# Altium footprint library WR-TBL_Rising Cage Clamp_10.00mm.PcbLib: 54 footprints (part 1 of 4)
Each footprint in its own frame and in the unit in brackets; x right, y up, seen from the top. Pads: shape width x height; smd on the part's side, far side on the other; paste and mask are expansions set on the pad; w line width, h text height; cw(c..) or ccw(c..) is an arc to the next point about the centre after c.
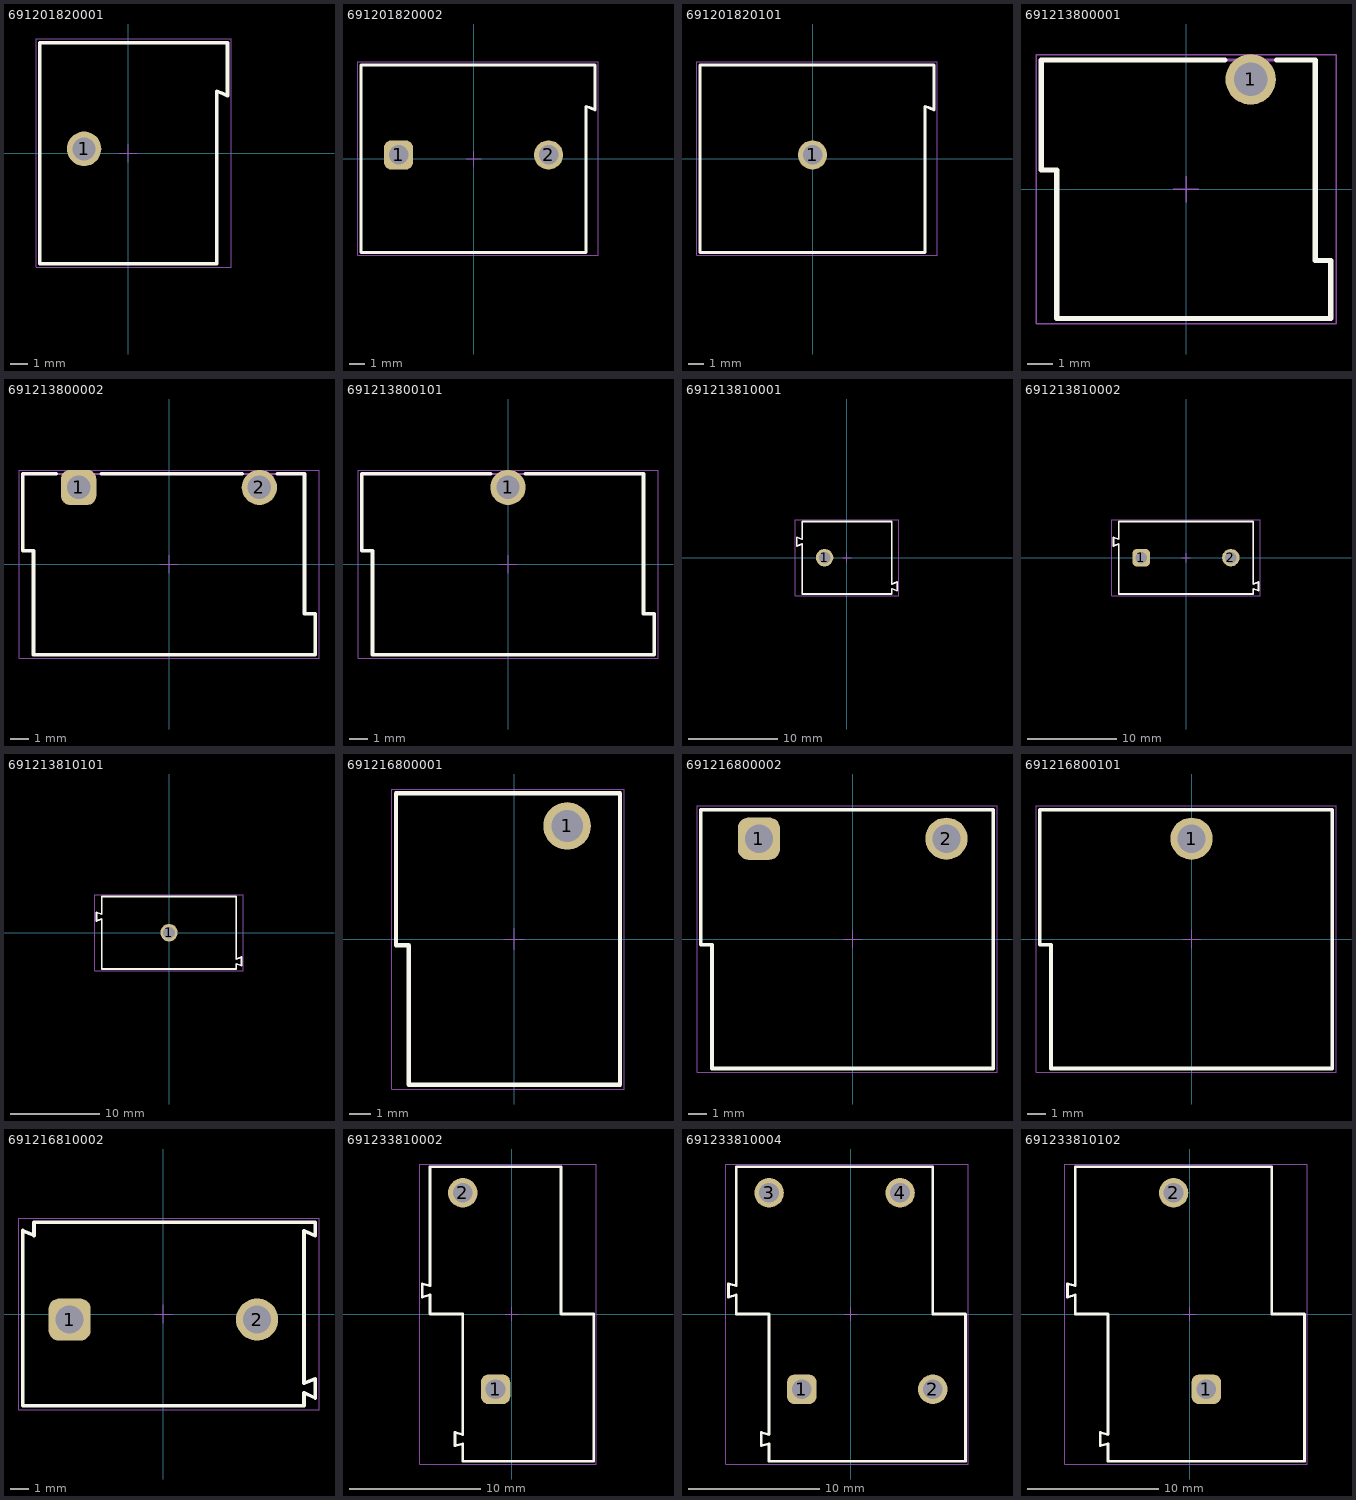
[diagram p0: the footprints below, top view; thin cyan lines are the x and y axes]

## 691201820001 [mm] "45¡ã Cable Entry with Rising Cage Clamp, pitch 10mm, 01p"
height 12
pads (1):
  round 1.95 hole 1.3: 1(-2.5,0.25)
Top Overlay:
  lines w0.2: 4.998,-6.248 4.998,3.494 cw(c2.595,-3.291) 5.6,3.25 5.6,6.25 -5,6.25 -5,-6.25 5,-6.25
Top Designator:
  text ".Designator" at -7.498,-0.5 h1.5
Top Component Outline:
  lines w0.1: 4.998,-6.248 4.998,3.494 cw(c2.595,-3.291) 5.6,3.25 5.6,6.25 -5,6.25 -5,-6.25 5,-6.25
Top 3D Body:
  lines w0.1: 4.998,-6.248 4.998,3.494 cw(c2.595,-3.291) 5.6,3.25 5.6,6.25 -5,6.25 -5,-6.25 5,-6.25
Top Courtyard:
  lines w0.05: -5.2,-6.45 5.8,-6.45 5.8,6.45 -5.2,6.45 -5.2,-6.45
Top Component Center:
  lines w0.05: -0.5,0 0.5,0 ; 0,-0.5 0,0.5
3D body "691201820001.stp": height 12.1, standoff -4.4, extent -5,-6.25 5.6,6.25

## 691201820002 [mm] "45¡ã Cable Entry with Rising Cage Clamp, pitch 10mm, 02p"
height 12
pads (2):
  rrect50% 1.95x1.95 hole 1.3: 1(-5,0.25)
  round 1.95 hole 1.3: 2(5,0.25)
Top Overlay:
  lines w0.2: 7.498,3.494 cw(c5.095,-3.291) 8.1,3.25 8.1,6.25 -7.5,6.25 -7.5,-6.25 7.5,-6.25 7.5,3.494
Top Designator:
  text ".Designator" at -7.498,-0.5 h1.5
Top Component Outline:
  lines w0.1: 7.498,3.494 cw(c5.095,-3.291) 8.1,3.25 8.1,6.25 -7.5,6.25 -7.5,-6.25 7.5,-6.25 7.5,3.494
Top 3D Body:
  lines w0.1: 7.498,3.494 cw(c5.095,-3.291) 8.1,3.25 8.1,6.25 -7.5,6.25 -7.5,-6.25 7.5,-6.25 7.5,3.494
Top Courtyard:
  lines w0.05: -7.7,-6.45 -7.7,6.45 8.3,6.45 8.3,-6.45 -7.7,-6.45
Top Component Center:
  lines w0.05: -0.5,0 0.5,0 ; 0,-0.5 0,0.5
3D body "691201820002.stp": height 12.1, standoff -4.4, extent -7.5,-6.25 8.1,6.25

## 691201820101 [mm] "45¡ã Cable Entry with Rising Cage Clamp, pitch 10mm, 01p"
height 12
pads (1):
  round 1.95 hole 1.3: 1(0,0.25)
Top Overlay:
  lines w0.2: 7.498,3.494 cw(c5.095,-3.291) 8.1,3.25 8.1,6.25 -7.5,6.25 -7.5,-6.25 7.5,-6.25 7.5,3.494
Top Designator:
  text ".Designator" at -7.498,-0.5 h1.5
Top Component Outline:
  lines w0.1: 7.498,3.494 cw(c5.095,-3.291) 8.1,3.25 8.1,6.25 -7.5,6.25 -7.5,-6.25 7.5,-6.25 7.5,3.494
Top 3D Body:
  lines w0.1: 7.498,3.494 cw(c5.095,-3.291) 8.1,3.25 8.1,6.25 -7.5,6.25 -7.5,-6.25 7.5,-6.25 7.5,3.494
Top Courtyard:
  lines w0.05: -7.7,-6.45 8.3,-6.45 8.3,6.45 -7.7,6.45 -7.7,-6.45
Top Component Center:
  lines w0.05: -0.5,0 0.5,0 ; 0,-0.5 0,0.5
3D body "691201820101.stp": height 12.1, standoff -4.4, extent -7.5,-6.25 8.1,6.25

## 691213800001 [mm] "Vertical Cable Entry with Rising Cage Clamp, pitch 10mm, 01p"
height 8.1
pads (1):
  round 1.95 hole 1.3: 1(2.5,4.25)
Top Overlay:
  lines w0.2: 1.5,5 -5.6,5 -5.6,0.75 -5,0.75 -5,-5 5.6,-5 5.6,-2.75 5,-2.75 5,5 3.5,5
Top Designator:
  text ".Designator" at -7.498,-0.5 h1.5
Top Component Outline:
  lines w0.1: -5.6,0.75 -5.6,5 5,5 5,-2.75 5.6,-2.75 5.6,-5 -5,-5 -5,0.75 -5.6,0.75
Top 3D Body:
  lines w0.1: -5.6,0.75 -5,0.75 -5,-5 5.6,-5 5.6,-2.75 5,-2.75 5,5 -5.6,5 -5.6,0.75
Top Courtyard:
  lines w0.05: -5.8,-5.2 5.8,-5.2 5.8,5.2 -5.8,5.2 -5.8,-5.2
Top Component Center:
  lines w0.05: -0.5,0 0.5,0 ; 0,-0.5 0,0.5
3D body "691213800001.stp": height 8.2, standoff -3.4, extent -5.6,-5 5.6,5

## 691213800002 [mm] "Vertical Cable Entry with Rising Cage Clamp, pitch 10mm, 02p"
height 8.1
pads (2):
  rrect50% 1.95x1.95 hole 1.3: 1(-5,4.25)
  round 1.95 hole 1.3: 2(5,4.25)
Top Overlay:
  lines w0.2: -6.25,5 -8.1,5 -8.1,0.75 -7.5,0.75 -7.5,-5 8.1,-5 8.1,-2.75 7.5,-2.75 7.5,5 6,5 ; -3.75,5 4.05,5
Top Designator:
  text ".Designator" at -7.498,-0.5 h1.5
Top Component Outline:
  lines w0.1: -8.1,0.75 -8.1,5 7.5,5 7.5,-2.75 8.1,-2.75 8.1,-5 -7.5,-5 -7.5,0.75 -8.1,0.75
Top 3D Body:
  lines w0.1: -8.1,0.75 -7.5,0.75 -7.5,-5 8.1,-5 8.1,-2.75 7.5,-2.75 7.5,5 -8.1,5 -8.1,0.75
Top Courtyard:
  lines w0.05: -8.3,-5.2 -8.3,5.2 8.3,5.2 8.3,-5.2 -8.3,-5.2
Top Component Center:
  lines w0.05: -0.5,0 0.5,0 ; 0,-0.5 0,0.5
3D body "691213800002.stp": height 8.2, standoff -3.4, extent -8.1,-5 8.1,5

## 691213800101 [mm] "Vertical Cable Entry with Rising Cage Clamp, pitch 10mm, 01p"
height 8.1
pads (1):
  round 1.95 hole 1.3: 1(0,4.25)
Top Overlay:
  lines w0.2: -0.95,5 -8.1,5 -8.1,0.75 -7.5,0.75 -7.5,-5 8.1,-5 8.1,-2.75 7.5,-2.75 7.5,5 0.95,5
Top Designator:
  text ".Designator" at -7.498,-0.5 h1.5
Top Component Outline:
  lines w0.1: -8.1,0.75 -8.1,5 7.5,5 7.5,-2.75 8.1,-2.75 8.1,-5 -7.5,-5 -7.5,0.75 -8.1,0.75
Top 3D Body:
  lines w0.1: -8.1,0.75 -7.5,0.75 -7.5,-5 8.1,-5 8.1,-2.75 7.5,-2.75 7.5,5 -8.1,5 -8.1,0.75
Top Courtyard:
  lines w0.05: -8.3,-5.2 -8.3,5.2 8.3,5.2 8.3,-5.2 -8.3,-5.2
Top Component Center:
  lines w0.05: -0.5,0 0.5,0 ; 0,-0.5 0,0.5
3D body "691213800101.stp": height 8.2, standoff -3.4, extent -8.1,-5 8.1,5

## 691213810001 [mm] "Horizontal Cable Entry with Rising Cage Clamp, pitch 10mm, 01p"
height 10
pads (1):
  round 1.95 hole 1.3: 1(-2.5,0)
Top Overlay:
  lines w0.2: -5.602,1.294 -5.602,2.294 ccw(c-2.597,8.835) -5,2.05 -5,4.05 5,4.05 ; -5.601,1.291 cw(c-2.502,-5.206) -5.002,1.544 -5.002,-4.048 ; -5,-4.05 5,-4.05 5,-3.45 cw(c2.597,-10.235) 5.602,-3.694 5.602,-2.694 ; 5.002,4.048 5.002,-2.944 ccw(c2.502,3.806) 5.601,-2.691
Top Designator:
  text ".Designator" at -7.498,-0.5 h1.5
Top Component Outline:
  lines w0.1: -5.602,1.294 -5.602,2.294 ccw(c-2.597,8.835) -5,2.05 -5,4.05 5,4.05 ; -5.601,1.291 cw(c-2.502,-5.206) -5.002,1.544 -5.002,-4.048 ; -5,-4.05 5,-4.05 5,-3.45 cw(c2.597,-10.235) 5.602,-3.694 5.602,-2.694 ; 5.002,4.048 5.002,-2.944 ccw(c2.502,3.806) 5.601,-2.691
Top 3D Body:
  lines w0.1: -5.602,1.294 -5.602,2.294 ccw(c-2.597,8.835) -5,2.05 -5,4.05 5,4.05 ; -5.601,1.291 cw(c-2.502,-5.206) -5.002,1.544 -5.002,-4.048 ; -5,-4.05 5,-4.05 5,-3.45 cw(c2.597,-10.235) 5.602,-3.694 5.602,-2.694 ; 5.002,4.048 5.002,-2.944 ccw(c2.502,3.806) 5.601,-2.691
Top Courtyard:
  lines w0.05: -5.8,-4.25 5.8,-4.25 5.8,4.25 -5.8,4.25 -5.8,-4.25
Top Component Center:
  lines w0.05: -0.5,0 0.5,0 ; 0,-0.5 0,0.5
3D body "691213810001.stp": height 10.14, standoff -3.36, extent -5.6,-4.05 5.6,4.05

## 691213810002 [mm] "Horizontal Cable Entry with Rising Cage Clamp, pitch 10mm, 02p"
height 10
pads (2):
  rrect50% 1.95x1.95 hole 1.3: 1(-5,0)
  round 1.95 hole 1.3: 2(5,0)
Top Overlay:
  lines w0.2: -8.102,1.294 -8.102,2.294 ccw(c-5.097,8.835) -7.5,2.05 -7.5,4.05 7.5,4.05 7.5,-2.944 ccw(c5,3.806) 8.099,-2.691 ; -8.101,1.291 cw(c-5.002,-5.206) -7.502,1.544 ; -7.5,1.544 -7.5,-4.05 7.5,-4.05 7.5,-3.45 ; 7.498,-3.45 cw(c5.095,-10.235) 8.1,-3.694 8.1,-2.694
Top Designator:
  text ".Designator" at -7.498,-0.5 h1.5
Top Component Outline:
  lines w0.1: -8.102,1.294 -8.102,2.294 ccw(c-5.097,8.835) -7.5,2.05 -7.5,4.05 7.5,4.05 7.5,-2.944 ccw(c5,3.806) 8.099,-2.691 ; -8.101,1.291 cw(c-5.002,-5.206) -7.502,1.544 ; -7.5,1.544 -7.5,-4.05 7.5,-4.05 7.5,-3.45 ; 7.498,-3.45 cw(c5.095,-10.235) 8.1,-3.694 8.1,-2.694
Top 3D Body:
  lines w0.1: -8.102,1.294 -8.102,2.294 ccw(c-5.097,8.835) -7.5,2.05 -7.5,4.05 7.5,4.05 7.5,-2.944 ccw(c5,3.806) 8.099,-2.691 ; -8.101,1.291 cw(c-5.002,-5.206) -7.502,1.544 ; -7.5,1.544 -7.5,-4.05 7.5,-4.05 7.5,-3.45 ; 7.498,-3.45 cw(c5.095,-10.235) 8.1,-3.694 8.1,-2.694
Top Courtyard:
  lines w0.05: -8.3,-4.25 -8.3,4.25 8.3,4.25 8.3,-4.25 -8.3,-4.25
Top Component Center:
  lines w0.05: -0.5,0 0.5,0 ; 0,-0.5 0,0.5
3D body "691213810002.stp": height 10.1, standoff -3.4, extent -8.1,-4.05 8.1,4.05

## 691213810101 [mm] "Horizontal Cable Entry with Rising Cage Clamp, pitch 10mm, 01p"
height 10
pads (1):
  round 1.95 hole 1.3: 1(0,0)
Top Overlay:
  lines w0.2: -8.102,1.294 -8.102,2.294 ccw(c-5.097,8.835) -7.5,2.05 -7.5,4.05 7.5,4.05 7.5,-2.944 ccw(c5,3.806) 8.099,-2.691 ; -8.101,1.291 cw(c-5.002,-5.206) -7.502,1.544 ; -7.5,1.544 -7.5,-4.05 7.5,-4.05 7.5,-3.45 ; 7.498,-3.45 cw(c5.095,-10.235) 8.1,-3.694 8.1,-2.694
Top Designator:
  text ".Designator" at -7.498,-0.5 h1.5
Top Component Outline:
  lines w0.1: -8.102,1.294 -8.102,2.294 ccw(c-5.097,8.835) -7.5,2.05 -7.5,4.05 7.5,4.05 7.5,-2.944 ccw(c5,3.806) 8.099,-2.691 ; -8.101,1.291 cw(c-5.002,-5.206) -7.502,1.544 ; -7.5,1.544 -7.5,-4.05 7.5,-4.05 7.5,-3.45 ; 7.498,-3.45 cw(c5.095,-10.235) 8.1,-3.694 8.1,-2.694
Top 3D Body:
  lines w0.1: -8.102,1.294 -8.102,2.294 ccw(c-5.097,8.835) -7.5,2.05 -7.5,4.05 7.5,4.05 7.5,-2.944 ccw(c5,3.806) 8.099,-2.691 ; -8.101,1.291 cw(c-5.002,-5.206) -7.502,1.544 ; -7.5,1.544 -7.5,-4.05 7.5,-4.05 7.5,-3.45 ; 7.498,-3.45 cw(c5.095,-10.235) 8.1,-3.694 8.1,-2.694
Top Courtyard:
  lines w0.05: -8.3,-4.25 8.3,-4.25 8.3,4.25 -8.3,4.25 -8.3,-4.25
Top Component Center:
  lines w0.05: -0.5,0 0.5,0 ; 0,-0.5 0,0.5
3D body "691213810101.stp": height 10.14, standoff -3.36, extent -8.1,-4.05 8.1,4.05

## 691216800001 [mm] "Vertical Cable Entry with Rising Cage Clamp, pitch 10mm, 01p"
height 9.8
pads (1):
  round 2.25 hole 1.5: 1(2.5,5.35)
Top Overlay:
  lines w0.2: -5.6,-0.3 -5,-0.3 -5,-6.9 5,-6.9 5,6.9 -5.6,6.9 -5.6,-0.3
Top Designator:
  text ".Designator" at -7.498,-0.5 h1.5
Top Component Outline:
  lines w0.1: -5.6,-0.3 -5.6,6.9 5,6.9 5,-6.9 -5,-6.9 -5,-0.3 -5.6,-0.3
Top 3D Body:
  lines w0.1: -5.6,-0.3 -5,-0.3 -5,-6.9 5,-6.9 5,6.9 -5.6,6.9 -5.6,-0.3
Top Courtyard:
  lines w0.05: -5.8,-7.1 -5.8,7.1 5.2,7.1 5.2,-7.1 -5.8,-7.1
Top Component Center:
  lines w0.05: -0.5,0 0.5,0 ; 0,-0.5 0,0.5
3D body "691216800001.stp": height 9.9, standoff -3.4, extent -5.6,-6.9 5,6.9

## 691216800002 [mm] "Vertical Cable Entry with Rising Cage Clamp, pitch 10mm, 02p"
height 9.8
pads (2):
  rrect50% 2.25x2.25 hole 1.5: 1(-5,5.35)
  round 2.25 hole 1.5: 2(5,5.35)
Top Overlay:
  lines w0.2: -8.1,-0.3 -8.1,6.9 7.5,6.9 7.5,-6.9 -7.5,-6.9 -7.5,-0.3 -8.1,-0.3
Top Designator:
  text ".Designator" at -7.498,-0.5 h1.5
Top Component Outline:
  lines w0.1: -8.1,-0.3 -7.5,-0.3 -7.5,-6.9 7.5,-6.9 7.5,6.9 -8.1,6.9 -8.1,-0.3
Top 3D Body:
  lines w0.1: -8.1,-0.3 -8.1,6.9 7.5,6.9 7.5,-6.9 -7.5,-6.9 -7.5,-0.3 -8.1,-0.3
Top Courtyard:
  lines w0.05: -8.3,-7.1 7.7,-7.1 7.7,7.1 -8.3,7.1 -8.3,-7.1
Top Component Center:
  lines w0.05: -0.5,0 0.5,0 ; 0,-0.5 0,0.5
3D body "691216800002.stp": height 9.9, standoff -3.4, extent -8.1,-6.9 7.5,6.9

## 691216800101 [mm] "Vertical Cable Entry with Rising Cage Clamp, pitch 10mm, 01p"
height 9.8
pads (1):
  round 2.25 hole 1.5: 1(0,5.35)
Top Overlay:
  lines w0.2: -8.1,-0.3 -8.1,6.9 7.5,6.9 7.5,-6.9 -7.5,-6.9 -7.5,-0.3 -8.1,-0.3
Top Designator:
  text ".Designator" at -7.498,-0.5 h1.5
Top Component Outline:
  lines w0.1: -8.1,-0.3 -7.5,-0.3 -7.5,-6.9 7.5,-6.9 7.5,6.9 -8.1,6.9 -8.1,-0.3
Top 3D Body:
  lines w0.1: -8.1,-0.3 -8.1,6.9 7.5,6.9 7.5,-6.9 -7.5,-6.9 -7.5,-0.3 -8.1,-0.3
Top Courtyard:
  lines w0.05: -8.3,-7.1 7.7,-7.1 7.7,7.1 -8.3,7.1 -8.3,-7.1
Top Component Center:
  lines w0.05: -0.5,0 0.5,0 ; 0,-0.5 0,0.5
3D body "691216800101.stp": height 9.9, standoff -3.4, extent -8.1,-6.9 7.5,6.9

## 691216810002 [mm] "Serie 2168 - 10.00 mm _ 2 pins"
height 13.8
pads (2):
  rrect50% 2.25x2.25 hole 1.5: 1(-5,-0.3)
  round 2.25 hole 1.5: 2(5,-0.3)
Top Overlay:
  lines w0.2: 7.5,4.44 8.1,4.18 8.1,4.9 -6.9,4.9 -6.9,4.19 -7.5,4.45 -7.5,-4.9 7.5,-4.9 7.5,-4.2 ; 7.5,-4.199 8.1,-4.48 8.1,-3.462 7.5,-3.69 7.5,4.44
Top Designator:
  text ".Designator" at -7.498,-0.5 h1.5
Top Component Outline:
  lines w0.1: 7.5,4.44 8.1,4.18 8.1,4.9 -6.9,4.9 -6.9,4.19 -7.5,4.45 -7.5,-4.9 7.5,-4.9 7.5,-4.2 ; 7.5,-4.199 8.1,-4.48 8.1,-3.462 7.5,-3.69 7.5,4.44
Top 3D Body:
  lines w0.1: 7.5,4.44 8.1,4.18 8.1,4.9 -6.9,4.9 -6.9,4.19 -7.5,4.45 -7.5,-4.9 7.5,-4.9 7.5,-4.2 ; 7.5,-4.199 8.1,-4.48 8.1,-3.462 7.5,-3.69 7.5,4.44
Top Courtyard:
  lines w0.05: -7.7,-5.1 -7.7,5.1 8.3,5.1 8.3,-5.1 -7.7,-5.1
Top Component Center:
  lines w0.05: -0.5,0 0.5,0 ; 0,-0.5 0,0.5
3D body "691216810002.stp": height 13.85, standoff -3.45, extent -7.5,-4.9 8.1,4.9

## 691233810002 [mm] "Serie 2338 - 10.00 mm Horizontal Entry w. Rising Cage Clamp, 02p"
height 31.5
pads (2):
  rrect50% 2.25x2.25 hole 1.5: 1(-1.25,-5.75)
  round 2.25 hole 1.5: 2(-3.75,9.25)
Top Overlay:
  lines w0.2: -3.75,-9.89 -4.35,-10.06 -4.35,-9.03 -3.75,-9.2 -3.75,0 -6.25,0 -6.25,1.46 -6.85,1.29 -6.85,2.32 -6.25,2.149 -6.25,11.25 3.75,11.25 3.75,0 6.25,0 6.25,-11.25 -3.75,-11.25 -3.75,-9.89
Top Designator:
  text ".Designator" at -7.498,-0.5 h1.5
Top Component Outline:
  lines w0.1: -3.75,-9.89 -4.35,-10.06 -4.35,-9.03 -3.75,-9.2 -3.75,0 -6.25,0 -6.25,1.46 -6.85,1.29 -6.85,2.32 -6.25,2.149 -6.25,11.25 3.75,11.25 3.75,0 6.25,0 6.25,-11.25 -3.75,-11.25 -3.75,-9.89
Top 3D Body:
  lines w0.1: -3.75,-9.89 -4.35,-10.06 -4.35,-9.03 -3.75,-9.2 -3.75,0 -6.25,0 -6.25,1.46 -6.85,1.29 -6.85,2.32 -6.25,2.149 -6.25,11.25 3.75,11.25 3.75,0 6.25,0 6.25,-11.25 -3.75,-11.25 -3.75,-9.89
Top Courtyard:
  lines w0.05: -7.05,-11.45 6.45,-11.45 6.45,11.45 -7.05,11.45 -7.05,-11.45
Top Component Center:
  lines w0.05: -0.5,0 0.5,0 ; 0,-0.5 0,0.5
3D body "691233810002.stp": height 31.7, standoff -3.8, extent -6.85,-11.25 6.25,11.25

## 691233810004 [mm] "Serie 2338 - 10.00 mm Horizontal Entry w. Rising Cage Clamp, 04p"
height 31.5
pads (4):
  rrect50% 2.25x2.25 hole 1.5: 1(-3.75,-5.75)
  round 2.25 hole 1.5: 2(6.25,-5.75) 3(-6.25,9.25) 4(3.75,9.25)
Top Overlay:
  lines w0.2: -6.25,-9.89 -6.85,-10.06 -6.85,-9.03 -6.25,-9.2 -6.25,0 -8.75,0 -8.75,1.46 -9.35,1.29 -9.35,2.32 -8.75,2.149 -8.75,11.25 6.25,11.25 6.25,0 8.75,0 8.75,-11.25 -6.25,-11.25 -6.25,-9.89
Top Designator:
  text ".Designator" at -7.498,-0.5 h1.5
Top Component Outline:
  lines w0.1: -6.25,-9.89 -6.85,-10.06 -6.85,-9.03 -6.25,-9.2 -6.25,0 -8.75,0 -8.75,1.46 -9.35,1.29 -9.35,2.32 -8.75,2.149 -8.75,11.25 6.25,11.25 6.25,0 8.75,0 8.75,-11.25 -6.25,-11.25 -6.25,-9.89
Top 3D Body:
  lines w0.1: -6.25,-9.89 -6.85,-10.06 -6.85,-9.03 -6.25,-9.2 -6.25,0 -8.75,0 -8.75,1.46 -9.35,1.29 -9.35,2.32 -8.75,2.149 -8.75,11.25 6.25,11.25 6.25,0 8.75,0 8.75,-11.25 -6.25,-11.25 -6.25,-9.89
Top Courtyard:
  lines w0.05: -9.55,-11.45 8.95,-11.45 8.95,11.45 -9.55,11.45 -9.55,-11.45
Top Component Center:
  lines w0.05: -0.5,0 0.5,0 ; 0,-0.5 0,0.5
3D body "691233810004.stp": height 31.7, standoff -3.8, extent -9.35,-11.25 8.75,11.25

## 691233810102 [mm] "Serie 2338 - 10.00 mm Horizontal Entry w. Rising Cage Clamp, 02p"
height 31.5
pads (2):
  rrect50% 2.25x2.25 hole 1.5: 1(1.25,-5.75)
  round 2.25 hole 1.5: 2(-1.25,9.25)
Top Overlay:
  lines w0.2: -6.25,-9.89 -6.85,-10.06 -6.85,-9.03 -6.25,-9.2 -6.25,0 -8.75,0 -8.75,1.46 -9.35,1.29 -9.35,2.32 -8.75,2.149 -8.75,11.25 6.25,11.25 6.25,0 8.75,0 8.75,-11.25 -6.25,-11.25 -6.25,-9.89
Top Designator:
  text ".Designator" at -7.498,-0.5 h1.5
Top Component Outline:
  lines w0.1: -6.25,-9.89 -6.85,-10.06 -6.85,-9.03 -6.25,-9.2 -6.25,0 -8.75,0 -8.75,1.46 -9.35,1.29 -9.35,2.32 -8.75,2.149 -8.75,11.25 6.25,11.25 6.25,0 8.75,0 8.75,-11.25 -6.25,-11.25 -6.25,-9.89
Top 3D Body:
  lines w0.1: -6.25,-9.89 -6.85,-10.06 -6.85,-9.03 -6.25,-9.2 -6.25,0 -8.75,0 -8.75,1.46 -9.35,1.29 -9.35,2.32 -8.75,2.149 -8.75,11.25 6.25,11.25 6.25,0 8.75,0 8.75,-11.25 -6.25,-11.25 -6.25,-9.89
Top Courtyard:
  lines w0.05: -9.55,-11.45 8.95,-11.45 8.95,11.45 -9.55,11.45 -9.55,-11.45
Top Component Center:
  lines w0.05: -0.5,0 0.5,0 ; 0,-0.5 0,0.5
3D body "691233810102.stp": height 31.7, standoff -3.8, extent -9.35,-11.25 8.75,11.25